# Altium schematic symbol library USB.SchLib: 1 symbol
Pins are listed as number, name and electrical type; pins without a type are passive.

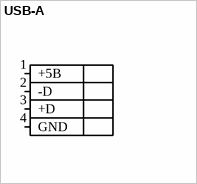
[diagram p0: symbol USB-A]

## USB-A
designator X, comment 0
footprint USB-ASM (DS1098-B)
pins: 1 +5В, 2 -D, 3 +D, 4 GND